# Altium footprint library Mounting_Wuerth.PcbLib: 191 footprints (part 9 of 12)
Each footprint in its own frame and in the unit in brackets; x right, y up, seen from the top. Pads: shape width x height; smd on the part's side, far side on the other; paste and mask are expansions set on the pad; w line width, h text height; cw(c..) or ccw(c..) is an arc to the next point about the centre after c.
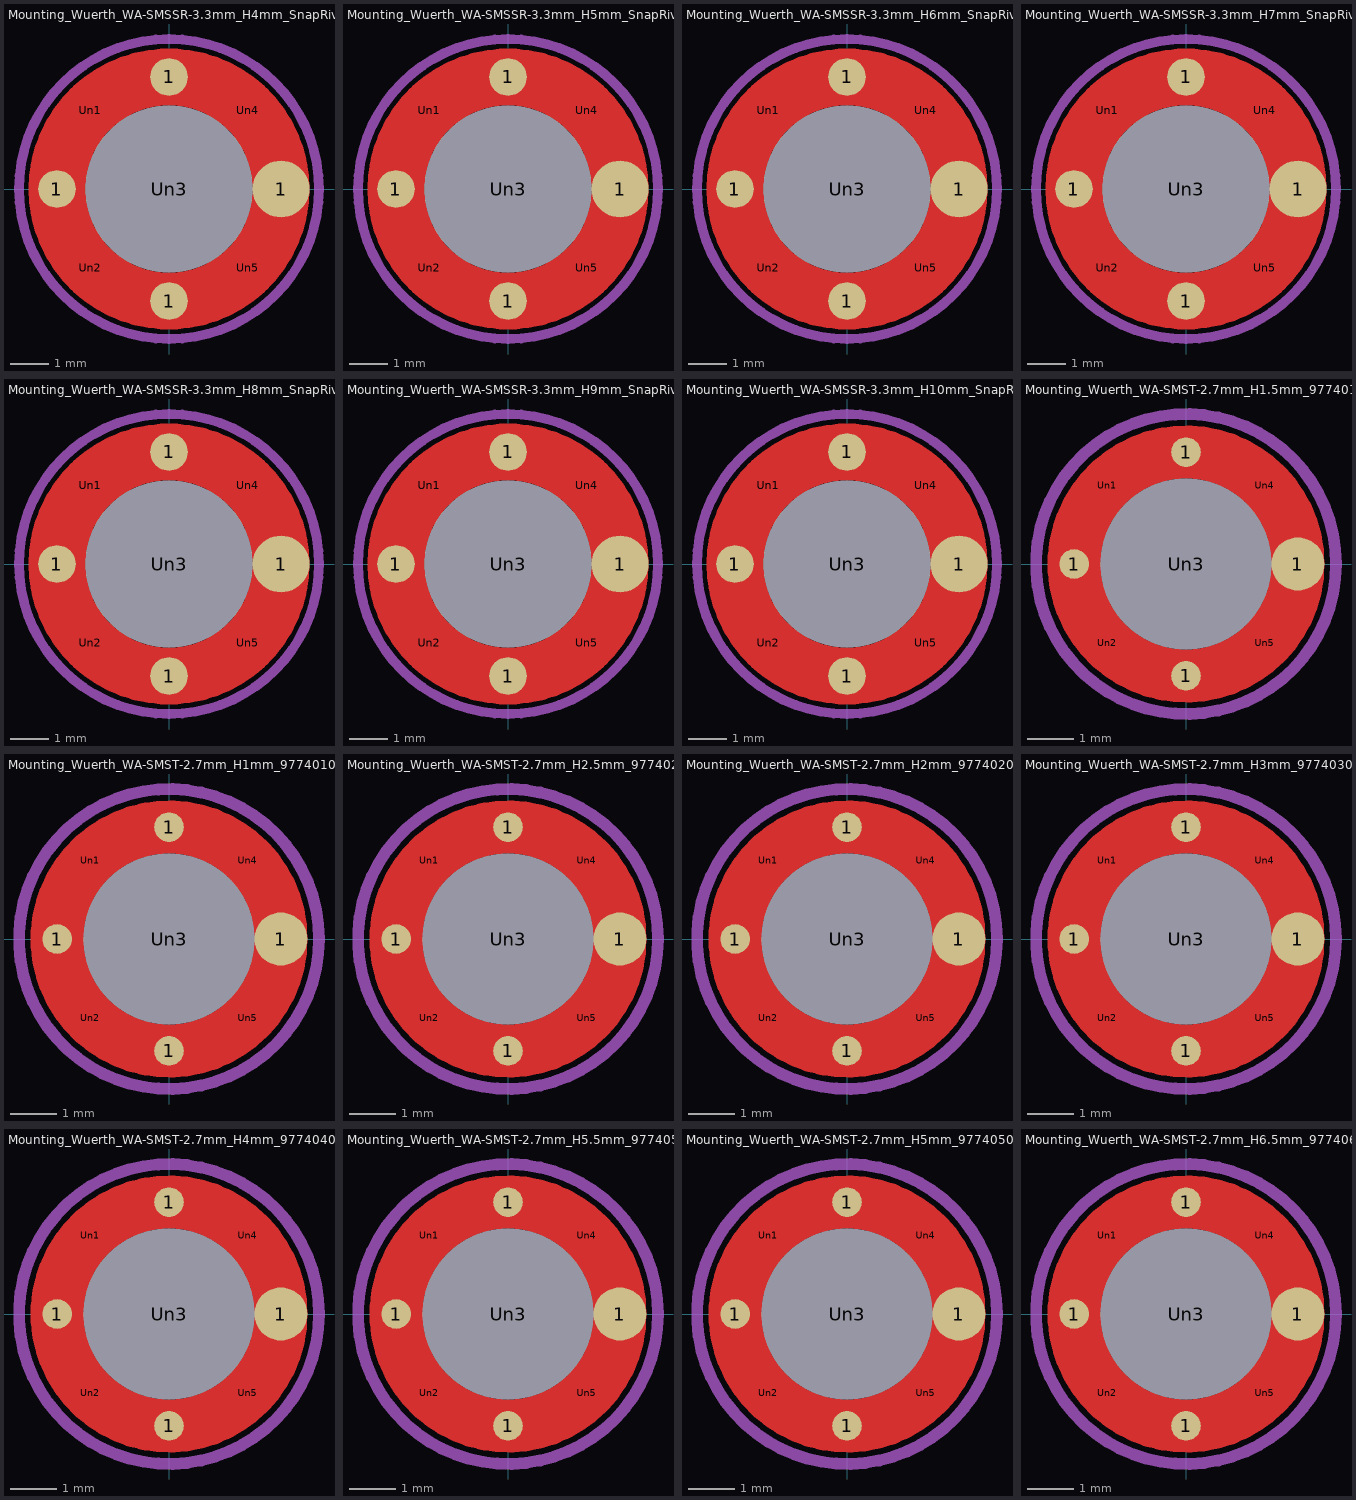
[diagram p8: the footprints below, top view; thin cyan lines are the x and y axes]

## Mounting_Wuerth_WA-SMSSR-3.3mm_H4mm_SnapRivet_9776040960 [mm]
pads (9):
  round 0.992 smd: 1(-2.95,0) 1(0,-2.95) 1(0,2.95)
  round 1.5 smd: 1(2.95,0)
  round 0.697 on Top Paste: Un1(-2.077,2.077) Un2(-2.077,-2.077) Un4(2.077,2.077) Un5(2.077,-2.077)
  round 4.4 hole 4.4: Un3(0,0)
F.Cu:
  circle w1.5: c0,0 r2.95
F.Paste:
  lines w0.2: -3.499,-0.5 -2.286,-0.5 ; -3.499,0.5 -2.286,0.5 ; -0.5,-3.499 -0.5,-2.286 ; -0.5,2.286 -0.5,3.499 ; 0.5,-3.499 0.5,-2.286 ; 0.5,2.286 0.5,3.499 ; 2.286,-0.5 3.499,-0.5 ; 2.286,0.5 3.499,0.5
F.Mask:
  circle w1.5: c0,0 r2.95
Top Assembly:
  circle w0.254: c0,0 r3
  text "'.Designator'" at -4.047,-0.84 h1
Top Courtyard:
  circle w0.254: c0,0 r3.95
Top Designator:
  text ".Designator" at -7.677,-0.508 h1.52
3D body "Mounting_Wuerth_WA-SMSSR-3.3mm_H4mm_SnapRivet_9776040960.step": height 4, standoff -1.4, extent -3,-3 3,3

## Mounting_Wuerth_WA-SMSSR-3.3mm_H5mm_SnapRivet_9776050960 [mm]
pads (9):
  round 0.992 smd: 1(-2.95,0) 1(0,-2.95) 1(0,2.95)
  round 1.5 smd: 1(2.95,0)
  round 0.697 on Top Paste: Un1(-2.077,2.077) Un2(-2.077,-2.077) Un4(2.077,2.077) Un5(2.077,-2.077)
  round 4.4 hole 4.4: Un3(0,0)
F.Cu:
  circle w1.5: c0,0 r2.95
F.Paste:
  lines w0.2: -3.499,-0.5 -2.286,-0.5 ; -3.499,0.5 -2.286,0.5 ; -0.5,-3.499 -0.5,-2.286 ; -0.5,2.286 -0.5,3.499 ; 0.5,-3.499 0.5,-2.286 ; 0.5,2.286 0.5,3.499 ; 2.286,-0.5 3.499,-0.5 ; 2.286,0.5 3.499,0.5
F.Mask:
  circle w1.5: c0,0 r2.95
Top Assembly:
  circle w0.254: c0,0 r3
  text "'.Designator'" at -4.047,-0.84 h1
Top Courtyard:
  circle w0.254: c0,0 r3.95
Top Designator:
  text ".Designator" at -7.677,-0.508 h1.52
3D body "Mounting_Wuerth_WA-SMSSR-3.3mm_H5mm_SnapRivet_9776050960.step": height 5, standoff -1.4, extent -3,-3 3,3

## Mounting_Wuerth_WA-SMSSR-3.3mm_H6mm_SnapRivet_9776060960 [mm]
pads (9):
  round 0.992 smd: 1(-2.95,0) 1(0,-2.95) 1(0,2.95)
  round 1.5 smd: 1(2.95,0)
  round 0.697 on Top Paste: Un1(-2.077,2.077) Un2(-2.077,-2.077) Un4(2.077,2.077) Un5(2.077,-2.077)
  round 4.4 hole 4.4: Un3(0,0)
F.Cu:
  circle w1.5: c0,0 r2.95
F.Paste:
  lines w0.2: -3.499,-0.5 -2.286,-0.5 ; -3.499,0.5 -2.286,0.5 ; -0.5,-3.499 -0.5,-2.286 ; -0.5,2.286 -0.5,3.499 ; 0.5,-3.499 0.5,-2.286 ; 0.5,2.286 0.5,3.499 ; 2.286,-0.5 3.499,-0.5 ; 2.286,0.5 3.499,0.5
F.Mask:
  circle w1.5: c0,0 r2.95
Top Assembly:
  circle w0.254: c0,0 r3
  text "'.Designator'" at -4.047,-0.84 h1
Top Courtyard:
  circle w0.254: c0,0 r3.95
Top Designator:
  text ".Designator" at -7.677,-0.508 h1.52
3D body "Mounting_Wuerth_WA-SMSSR-3.3mm_H6mm_SnapRivet_9776060960.step": height 6, standoff -1.4, extent -3,-3 3,3

## Mounting_Wuerth_WA-SMSSR-3.3mm_H7mm_SnapRivet_9776070960 [mm]
pads (9):
  round 0.992 smd: 1(-2.95,0) 1(0,-2.95) 1(0,2.95)
  round 1.5 smd: 1(2.95,0)
  round 0.697 on Top Paste: Un1(-2.077,2.077) Un2(-2.077,-2.077) Un4(2.077,2.077) Un5(2.077,-2.077)
  round 4.4 hole 4.4: Un3(0,0)
F.Cu:
  circle w1.5: c0,0 r2.95
F.Paste:
  lines w0.2: -3.499,-0.5 -2.286,-0.5 ; -3.499,0.5 -2.286,0.5 ; -0.5,-3.499 -0.5,-2.286 ; -0.5,2.286 -0.5,3.499 ; 0.5,-3.499 0.5,-2.286 ; 0.5,2.286 0.5,3.499 ; 2.286,-0.5 3.499,-0.5 ; 2.286,0.5 3.499,0.5
F.Mask:
  circle w1.5: c0,0 r2.95
Top Assembly:
  circle w0.254: c0,0 r3
  text "'.Designator'" at -4.047,-0.84 h1
Top Courtyard:
  circle w0.254: c0,0 r3.95
Top Designator:
  text ".Designator" at -7.677,-0.508 h1.52
3D body "Mounting_Wuerth_WA-SMSSR-3.3mm_H7mm_SnapRivet_9776070960.step": height 7, standoff -1.4, extent -3,-3 3,3

## Mounting_Wuerth_WA-SMSSR-3.3mm_H8mm_SnapRivet_9776080960 [mm]
pads (9):
  round 0.992 smd: 1(-2.95,0) 1(0,-2.95) 1(0,2.95)
  round 1.5 smd: 1(2.95,0)
  round 0.697 on Top Paste: Un1(-2.077,2.077) Un2(-2.077,-2.077) Un4(2.077,2.077) Un5(2.077,-2.077)
  round 4.4 hole 4.4: Un3(0,0)
F.Cu:
  circle w1.5: c0,0 r2.95
F.Paste:
  lines w0.2: -3.499,-0.5 -2.286,-0.5 ; -3.499,0.5 -2.286,0.5 ; -0.5,-3.499 -0.5,-2.286 ; -0.5,2.286 -0.5,3.499 ; 0.5,-3.499 0.5,-2.286 ; 0.5,2.286 0.5,3.499 ; 2.286,-0.5 3.499,-0.5 ; 2.286,0.5 3.499,0.5
F.Mask:
  circle w1.5: c0,0 r2.95
Top Assembly:
  circle w0.254: c0,0 r3
  text "'.Designator'" at -4.047,-0.84 h1
Top Courtyard:
  circle w0.254: c0,0 r3.95
Top Designator:
  text ".Designator" at -7.677,-0.508 h1.52
3D body "Mounting_Wuerth_WA-SMSSR-3.3mm_H8mm_SnapRivet_9776080960.step": height 8, standoff -1.4, extent -3,-3 3,3

## Mounting_Wuerth_WA-SMSSR-3.3mm_H9mm_SnapRivet_9776090960 [mm]
pads (9):
  round 0.992 smd: 1(-2.95,0) 1(0,-2.95) 1(0,2.95)
  round 1.5 smd: 1(2.95,0)
  round 0.697 on Top Paste: Un1(-2.077,2.077) Un2(-2.077,-2.077) Un4(2.077,2.077) Un5(2.077,-2.077)
  round 4.4 hole 4.4: Un3(0,0)
F.Cu:
  circle w1.5: c0,0 r2.95
F.Paste:
  lines w0.2: -3.499,-0.5 -2.286,-0.5 ; -3.499,0.5 -2.286,0.5 ; -0.5,-3.499 -0.5,-2.286 ; -0.5,2.286 -0.5,3.499 ; 0.5,-3.499 0.5,-2.286 ; 0.5,2.286 0.5,3.499 ; 2.286,-0.5 3.499,-0.5 ; 2.286,0.5 3.499,0.5
F.Mask:
  circle w1.5: c0,0 r2.95
Top Assembly:
  circle w0.254: c0,0 r3
  text "'.Designator'" at -4.047,-0.84 h1
Top Courtyard:
  circle w0.254: c0,0 r3.95
Top Designator:
  text ".Designator" at -7.677,-0.508 h1.52
3D body "Mounting_Wuerth_WA-SMSSR-3.3mm_H9mm_SnapRivet_9776090960.step": height 9, standoff -1.4, extent -3,-3 3,3

## Mounting_Wuerth_WA-SMSSR-3.3mm_H10mm_SnapRivet_9776100960 [mm]
pads (9):
  round 0.992 smd: 1(-2.95,0) 1(0,-2.95) 1(0,2.95)
  round 1.5 smd: 1(2.95,0)
  round 0.697 on Top Paste: Un1(-2.077,2.077) Un2(-2.077,-2.077) Un4(2.077,2.077) Un5(2.077,-2.077)
  round 4.4 hole 4.4: Un3(0,0)
F.Cu:
  circle w1.5: c0,0 r2.95
F.Paste:
  lines w0.2: -3.499,-0.5 -2.286,-0.5 ; -3.499,0.5 -2.286,0.5 ; -0.5,-3.499 -0.5,-2.286 ; -0.5,2.286 -0.5,3.499 ; 0.5,-3.499 0.5,-2.286 ; 0.5,2.286 0.5,3.499 ; 2.286,-0.5 3.499,-0.5 ; 2.286,0.5 3.499,0.5
F.Mask:
  circle w1.5: c0,0 r2.95
Top Assembly:
  circle w0.254: c0,0 r3
  text "'.Designator'" at -4.047,-0.84 h1
Top Courtyard:
  circle w0.254: c0,0 r3.95
Top Designator:
  text ".Designator" at -7.677,-0.508 h1.52
3D body "Mounting_Wuerth_WA-SMSSR-3.3mm_H10mm_SnapRivet_9776100960.step": height 10, standoff -1.4, extent -3,-3 3,3

## Mounting_Wuerth_WA-SMST-2.7mm_H1.5mm_9774015951 [mm]
pads (9):
  round 0.642 smd: 1(-2.425,0) 1(0,-2.425) 1(0,2.425)
  round 1.15 smd: 1(2.425,0)
  round 0.51 on Top Paste: Un1(-1.704,1.704) Un2(-1.704,-1.704) Un4(1.704,1.704) Un5(1.704,-1.704)
  round 3.7 hole 3.7: Un3(0,0)
F.Cu:
  circle w1.15: c0,0 r2.425
F.Paste:
  lines w0.2: -2.788,-0.425 -1.954,-0.425 ; -2.788,0.425 -1.954,0.425 ; -0.425,-2.788 -0.425,-1.954 ; -0.425,1.954 -0.425,2.788 ; 0.425,-2.788 0.425,-1.954 ; 0.425,1.954 0.425,2.788 ; 1.954,-0.425 2.788,-0.425 ; 1.954,0.425 2.788,0.425
F.Mask:
  circle w1.15: c0,0 r2.425
Top Assembly:
  circle w0.254: c0,0 r2.55
  text "'.Designator'" at -4.047,-0.84 h1
Top Courtyard:
  circle w0.254: c0,0 r3.25
Top Designator:
  text ".Designator" at -7.768,-0.508 h1.52
3D body "Mounting_Wuerth_WA-SMST-2.7mm_H1.5mm_9774015951.step": height 1.5, standoff -1.4, extent -2.55,-2.547 2.55,2.547

## Mounting_Wuerth_WA-SMST-2.7mm_H1mm_9774010951 [mm]
pads (9):
  round 0.642 smd: 1(-2.425,0) 1(0,-2.425) 1(0,2.425)
  round 1.15 smd: 1(2.425,0)
  round 0.51 on Top Paste: Un1(-1.704,1.704) Un2(-1.704,-1.704) Un4(1.704,1.704) Un5(1.704,-1.704)
  round 3.7 hole 3.7: Un3(0,0)
F.Cu:
  circle w1.15: c0,0 r2.425
F.Paste:
  lines w0.2: -2.788,-0.425 -1.954,-0.425 ; -2.788,0.425 -1.954,0.425 ; -0.425,-2.788 -0.425,-1.954 ; -0.425,1.954 -0.425,2.788 ; 0.425,-2.788 0.425,-1.954 ; 0.425,1.954 0.425,2.788 ; 1.954,-0.425 2.788,-0.425 ; 1.954,0.425 2.788,0.425
F.Mask:
  circle w1.15: c0,0 r2.425
Top Assembly:
  circle w0.254: c0,0 r2.55
  text "'.Designator'" at -4.047,-0.84 h1
Top Courtyard:
  circle w0.254: c0,0 r3.25
Top Designator:
  text ".Designator" at -7.768,-0.508 h1.52
3D body "Mounting_Wuerth_WA-SMST-2.7mm_H1mm_9774010951.step": height 1, standoff -1.4, extent -2.55,-2.547 2.55,2.547

## Mounting_Wuerth_WA-SMST-2.7mm_H2.5mm_9774025951 [mm]
pads (9):
  round 0.642 smd: 1(-2.425,0) 1(0,-2.425) 1(0,2.425)
  round 1.15 smd: 1(2.425,0)
  round 0.51 on Top Paste: Un1(-1.704,1.704) Un2(-1.704,-1.704) Un4(1.704,1.704) Un5(1.704,-1.704)
  round 3.7 hole 3.7: Un3(0,0)
F.Cu:
  circle w1.15: c0,0 r2.425
F.Paste:
  lines w0.2: -2.788,-0.425 -1.954,-0.425 ; -2.788,0.425 -1.954,0.425 ; -0.425,-2.788 -0.425,-1.954 ; -0.425,1.954 -0.425,2.788 ; 0.425,-2.788 0.425,-1.954 ; 0.425,1.954 0.425,2.788 ; 1.954,-0.425 2.788,-0.425 ; 1.954,0.425 2.788,0.425
F.Mask:
  circle w1.15: c0,0 r2.425
Top Assembly:
  circle w0.254: c0,0 r2.55
  text "'.Designator'" at -4.047,-0.84 h1
Top Courtyard:
  circle w0.254: c0,0 r3.25
Top Designator:
  text ".Designator" at -7.768,-0.508 h1.52
3D body "Mounting_Wuerth_WA-SMST-2.7mm_H2.5mm_9774025951.step": height 2.5, standoff -1.4, extent -2.55,-2.547 2.55,2.547

## Mounting_Wuerth_WA-SMST-2.7mm_H2mm_9774020951 [mm]
pads (9):
  round 0.642 smd: 1(-2.425,0) 1(0,-2.425) 1(0,2.425)
  round 1.15 smd: 1(2.425,0)
  round 0.51 on Top Paste: Un1(-1.704,1.704) Un2(-1.704,-1.704) Un4(1.704,1.704) Un5(1.704,-1.704)
  round 3.7 hole 3.7: Un3(0,0)
F.Cu:
  circle w1.15: c0,0 r2.425
F.Paste:
  lines w0.2: -2.788,-0.425 -1.954,-0.425 ; -2.788,0.425 -1.954,0.425 ; -0.425,-2.788 -0.425,-1.954 ; -0.425,1.954 -0.425,2.788 ; 0.425,-2.788 0.425,-1.954 ; 0.425,1.954 0.425,2.788 ; 1.954,-0.425 2.788,-0.425 ; 1.954,0.425 2.788,0.425
F.Mask:
  circle w1.15: c0,0 r2.425
Top Assembly:
  circle w0.254: c0,0 r2.55
  text "'.Designator'" at -4.047,-0.84 h1
Top Courtyard:
  circle w0.254: c0,0 r3.25
Top Designator:
  text ".Designator" at -7.768,-0.508 h1.52
3D body "Mounting_Wuerth_WA-SMST-2.7mm_H2mm_9774020951.step": height 2, standoff -1.4, extent -2.55,-2.547 2.55,2.547

## Mounting_Wuerth_WA-SMST-2.7mm_H3mm_9774030951 [mm]
pads (9):
  round 0.642 smd: 1(-2.425,0) 1(0,-2.425) 1(0,2.425)
  round 1.15 smd: 1(2.425,0)
  round 0.51 on Top Paste: Un1(-1.704,1.704) Un2(-1.704,-1.704) Un4(1.704,1.704) Un5(1.704,-1.704)
  round 3.7 hole 3.7: Un3(0,0)
F.Cu:
  circle w1.15: c0,0 r2.425
F.Paste:
  lines w0.2: -2.788,-0.425 -1.954,-0.425 ; -2.788,0.425 -1.954,0.425 ; -0.425,-2.788 -0.425,-1.954 ; -0.425,1.954 -0.425,2.788 ; 0.425,-2.788 0.425,-1.954 ; 0.425,1.954 0.425,2.788 ; 1.954,-0.425 2.788,-0.425 ; 1.954,0.425 2.788,0.425
F.Mask:
  circle w1.15: c0,0 r2.425
Top Assembly:
  circle w0.254: c0,0 r2.55
  text "'.Designator'" at -4.047,-0.84 h1
Top Courtyard:
  circle w0.254: c0,0 r3.25
Top Designator:
  text ".Designator" at -7.768,-0.508 h1.52
3D body "Mounting_Wuerth_WA-SMSSR-3.3mm_H3mm_SnapRivet_9776030960.step": height 3, standoff -1.4, extent -3,-3 3,3

## Mounting_Wuerth_WA-SMST-2.7mm_H4mm_9774040951 [mm]
pads (9):
  round 0.642 smd: 1(-2.425,0) 1(0,-2.425) 1(0,2.425)
  round 1.15 smd: 1(2.425,0)
  round 0.51 on Top Paste: Un1(-1.704,1.704) Un2(-1.704,-1.704) Un4(1.704,1.704) Un5(1.704,-1.704)
  round 3.7 hole 3.7: Un3(0,0)
F.Cu:
  circle w1.15: c0,0 r2.425
F.Paste:
  lines w0.2: -2.788,-0.425 -1.954,-0.425 ; -2.788,0.425 -1.954,0.425 ; -0.425,-2.788 -0.425,-1.954 ; -0.425,1.954 -0.425,2.788 ; 0.425,-2.788 0.425,-1.954 ; 0.425,1.954 0.425,2.788 ; 1.954,-0.425 2.788,-0.425 ; 1.954,0.425 2.788,0.425
F.Mask:
  circle w1.15: c0,0 r2.425
Top Assembly:
  circle w0.254: c0,0 r2.55
  text "'.Designator'" at -4.047,-0.84 h1
Top Courtyard:
  circle w0.254: c0,0 r3.25
Top Designator:
  text ".Designator" at -7.768,-0.508 h1.52
3D body "Mounting_Wuerth_WA-SMST-2.7mm_H4mm_9774040951.step": height 4, standoff -1.4, extent -2.55,-2.547 2.55,2.547

## Mounting_Wuerth_WA-SMST-2.7mm_H5.5mm_9774055951 [mm]
pads (9):
  round 0.642 smd: 1(-2.425,0) 1(0,-2.425) 1(0,2.425)
  round 1.15 smd: 1(2.425,0)
  round 0.51 on Top Paste: Un1(-1.704,1.704) Un2(-1.704,-1.704) Un4(1.704,1.704) Un5(1.704,-1.704)
  round 3.7 hole 3.7: Un3(0,0)
F.Cu:
  circle w1.15: c0,0 r2.425
F.Paste:
  lines w0.2: -2.788,-0.425 -1.954,-0.425 ; -2.788,0.425 -1.954,0.425 ; -0.425,-2.788 -0.425,-1.954 ; -0.425,1.954 -0.425,2.788 ; 0.425,-2.788 0.425,-1.954 ; 0.425,1.954 0.425,2.788 ; 1.954,-0.425 2.788,-0.425 ; 1.954,0.425 2.788,0.425
F.Mask:
  circle w1.15: c0,0 r2.425
Top Assembly:
  circle w0.254: c0,0 r2.55
  text "'.Designator'" at -4.047,-0.84 h1
Top Courtyard:
  circle w0.254: c0,0 r3.25
Top Designator:
  text ".Designator" at -7.768,-0.508 h1.52
3D body "Mounting_Wuerth_WA-SMST-2.7mm_H5.5mm_9774055951.step": height 5.5, standoff -1.4, extent -2.55,-2.547 2.55,2.547

## Mounting_Wuerth_WA-SMST-2.7mm_H5mm_9774050951 [mm]
pads (9):
  round 0.642 smd: 1(-2.425,0) 1(0,-2.425) 1(0,2.425)
  round 1.15 smd: 1(2.425,0)
  round 0.51 on Top Paste: Un1(-1.704,1.704) Un2(-1.704,-1.704) Un4(1.704,1.704) Un5(1.704,-1.704)
  round 3.7 hole 3.7: Un3(0,0)
F.Cu:
  circle w1.15: c0,0 r2.425
F.Paste:
  lines w0.2: -2.788,-0.425 -1.954,-0.425 ; -2.788,0.425 -1.954,0.425 ; -0.425,-2.788 -0.425,-1.954 ; -0.425,1.954 -0.425,2.788 ; 0.425,-2.788 0.425,-1.954 ; 0.425,1.954 0.425,2.788 ; 1.954,-0.425 2.788,-0.425 ; 1.954,0.425 2.788,0.425
F.Mask:
  circle w1.15: c0,0 r2.425
Top Assembly:
  circle w0.254: c0,0 r2.55
  text "'.Designator'" at -4.047,-0.84 h1
Top Courtyard:
  circle w0.254: c0,0 r3.25
Top Designator:
  text ".Designator" at -7.768,-0.508 h1.52
3D body "Mounting_Wuerth_WA-SMST-2.7mm_H5mm_9774050951.step": height 5, standoff -1.4, extent -2.55,-2.547 2.55,2.547

## Mounting_Wuerth_WA-SMST-2.7mm_H6.5mm_9774065951 [mm]
pads (9):
  round 0.642 smd: 1(-2.425,0) 1(0,-2.425) 1(0,2.425)
  round 1.15 smd: 1(2.425,0)
  round 0.51 on Top Paste: Un1(-1.704,1.704) Un2(-1.704,-1.704) Un4(1.704,1.704) Un5(1.704,-1.704)
  round 3.7 hole 3.7: Un3(0,0)
F.Cu:
  circle w1.15: c0,0 r2.425
F.Paste:
  lines w0.2: -2.788,-0.425 -1.954,-0.425 ; -2.788,0.425 -1.954,0.425 ; -0.425,-2.788 -0.425,-1.954 ; -0.425,1.954 -0.425,2.788 ; 0.425,-2.788 0.425,-1.954 ; 0.425,1.954 0.425,2.788 ; 1.954,-0.425 2.788,-0.425 ; 1.954,0.425 2.788,0.425
F.Mask:
  circle w1.15: c0,0 r2.425
Top Assembly:
  circle w0.254: c0,0 r2.55
  text "'.Designator'" at -4.047,-0.84 h1
Top Courtyard:
  circle w0.254: c0,0 r3.25
Top Designator:
  text ".Designator" at -7.768,-0.508 h1.52
3D body "Mounting_Wuerth_WA-SMST-2.7mm_H6.5mm_9774065951.step": height 6.5, standoff -1.4, extent -2.55,-2.547 2.55,2.547